# Altium footprint library Mechanical_Connectors_Debug_THT.PcbLib: 3 footprints
Each footprint in its own frame and in the unit in brackets; x right, y up, seen from the top. Pads: shape width x height; smd on the part's side, far side on the other; paste and mask are expansions set on the pad; w line width, h text height; cw(c..) or ccw(c..) is an arc to the next point about the centre after c.
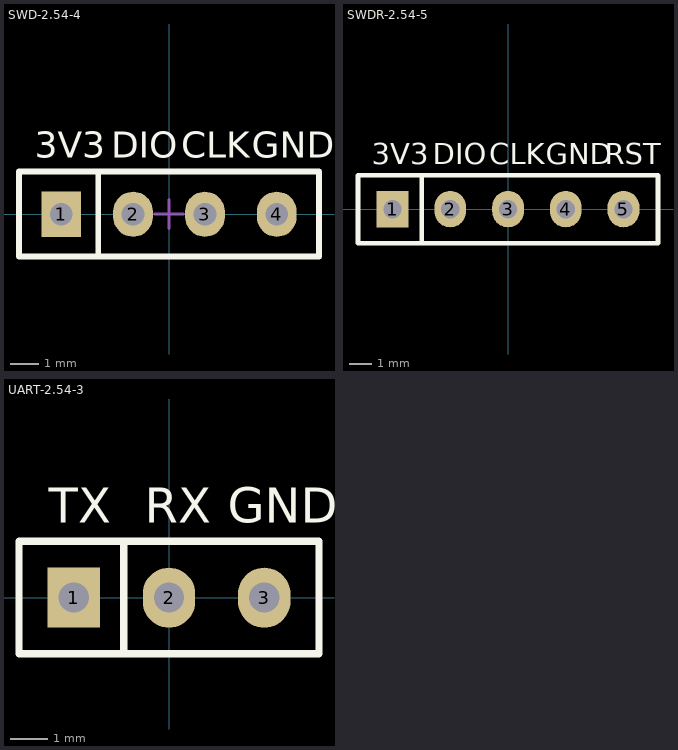
[diagram p0: the footprints below, top view; thin cyan lines are the x and y axes]

## SWD-2.54-4 [mm]
pads (4):
  rect 1.4x1.6 hole 0.8: 1(-3.81,-0.008)
  oval 1.4x1.6 hole 0.8: 2(-1.27,-0.008) 3(1.27,-0.008) 4(3.81,-0.008)
Top Overlay:
  lines w0.2: -2.5,-1.5 -2.5,1.5 ; -5.3,-1.5 -5.3,1.5 5.3,1.5 5.3,-1.5 -5.3,-1.5
  text "GND" at 2.928,1.667 h1.6
  text "CLK" at 0.44,1.667 h1.6
  text "DIO" at -2.049,1.667 h1.6
  text "3V3" at -4.735,1.667 h1.6
Top Designator:
  text ".Designator" at -4.304,-3.183 h2.5
Top Border:
  lines w0.1: -0.502,-0.008 0.498,-0.008 ; 0,-0.5 0,0.5 ; -5.3,-1.5 -5.3,1.5 5.3,1.5 5.3,-1.5 -5.3,-1.5 ; -0.508,0 0.508,0 -0.508,0 ; 0,-0.508 0,0.508 0,-0.508

## SWDR-2.54-5 [mm]
pads (5):
  rect 1.4x1.6 hole 0.8: 1(-5.078,0)
  oval 1.4x1.6 hole 0.8: 2(-2.538,0) 3(0.002,0) 4(2.542,0) 5(5.082,0)
Top Overlay:
  lines w0.2: -3.8,-1.5 -3.8,1.5 ; -6.6,-1.5 -6.6,1.5 6.6,1.5 6.6,-1.5 -6.6,-1.5
  text "3V3" at -6.003,1.675 h1.6
  text "GND" at 1.66,1.675 h1.6
  text "CLK" at -0.829,1.675 h1.6
  text "DIO" at -3.317,1.675 h1.6
  text "RST" at 4.26,1.675 h1.6
Top Designator:
  text ".Designator" at -4.304,-3.183 h2.5
Top Border:
  lines w0.1: -0.5,0 0.5,0 ; 0.002,-0.492 0.002,0.508 ; -6.6,-1.5 6.6,-1.5 6.6,1.5 -6.6,1.5 -6.6,-1.5 ; -0.506,0.008 0.51,0.008 -0.506,0.008 ; 0.002,-0.5 0.002,0.516 0.002,-0.5

## UART-2.54-3 [mm]
pads (3):
  rect 1.4x1.6 hole 0.8: 1(-2.54,0)
  oval 1.4x1.6 hole 0.8: 2(0,0) 3(2.54,0)
Top Overlay:
  lines w0.2: -1.2,-1.5 -1.2,1.5 ; -4,-1.5 4,-1.5 4,1.5 -4,1.5 -4,-1.5
  text "GND" at 1.56,1.7 h1.6
  text "TX" at -3.204,1.7 h1.6
  text "RX" at -0.642,1.7 h1.6
Top Designator:
  text ".Designator" at -4.304,-3.183 h2.5
Top Border:
  lines w0.1: -0.502,0 0.498,0 ; 0,-0.492 0,0.508 ; -4,-1.5 -4,1.5 4,1.5 4,-1.5 -4,-1.5 ; -0.508,0.008 0.508,0.008 -0.508,0.008 ; 0,-0.5 0,0.516 0,-0.5